# Altium schematic symbol library SamacSys.SchLib: 108 symbols (part 2 of 2)
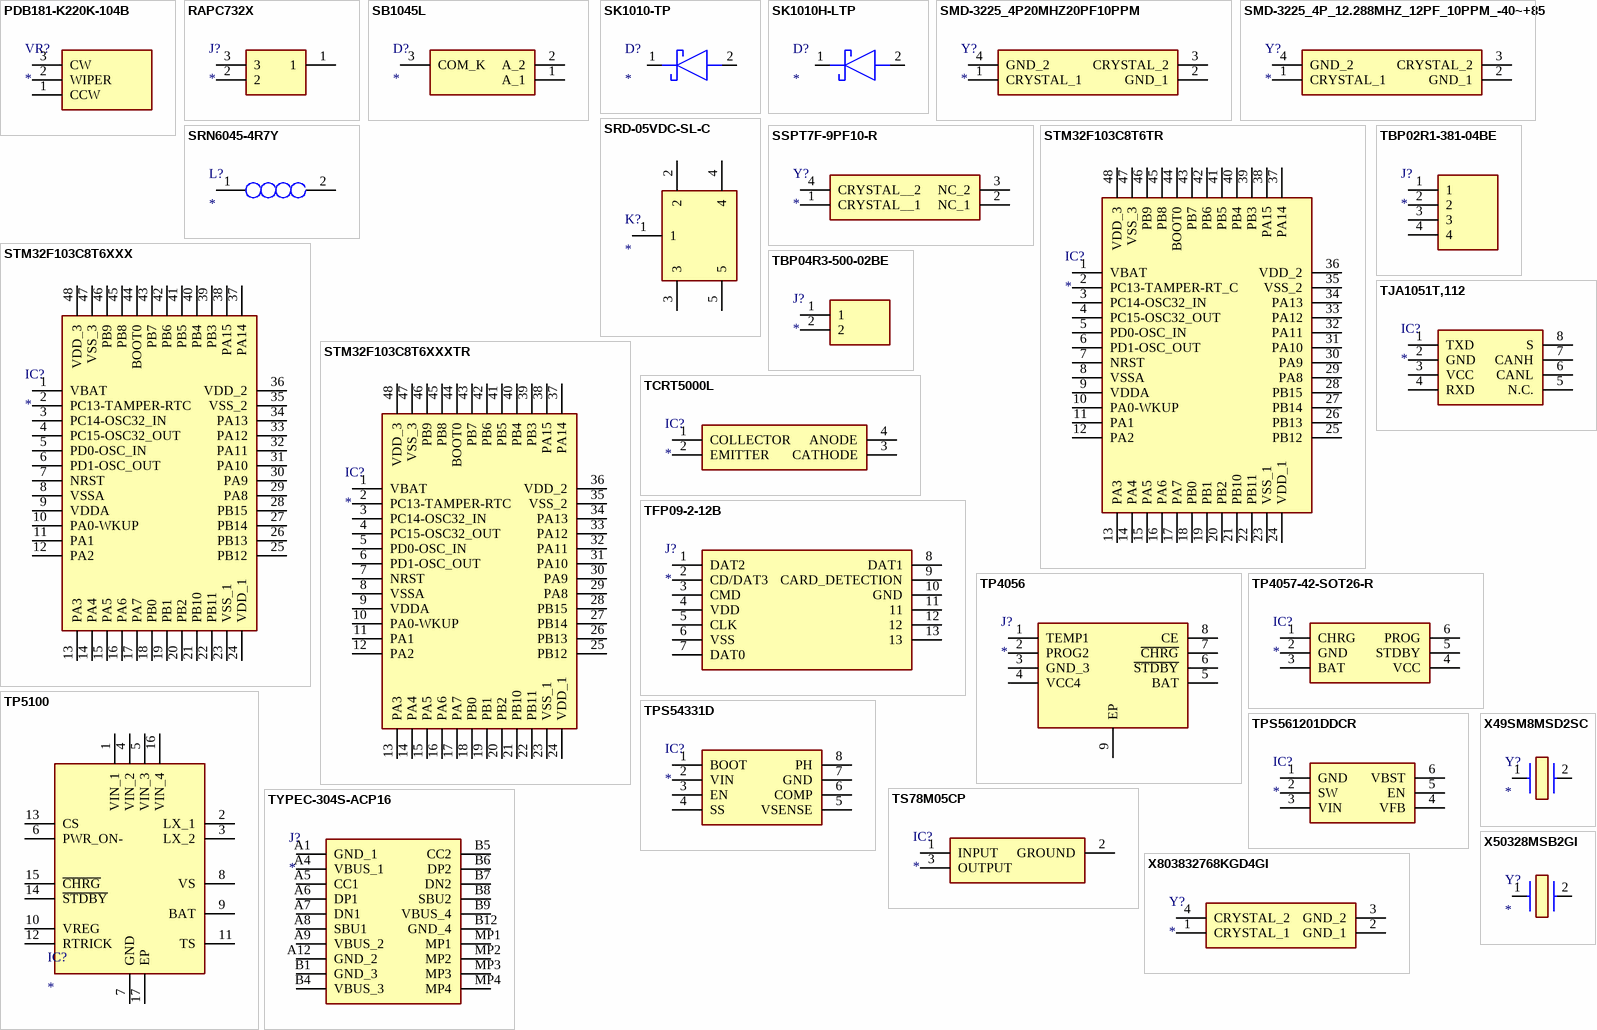
[diagram p3: symbols PDB181-K220K-104B to X803832768KGD4GI]

## TYPEC-304S-ACP16
designator J?
Connector; Manufacturer_Name: XUNPU; Manufacturer_Part_Number: TYPEC-304S-ACP16; Datasheet Link: https://datasheet.lcsc.com/szlcsc/2008152133_XUNPU-TYPEC-304S-ACP16_C720630.pdf; Height: 3.21mm
footprint TYPEC304SACP16
pins: A1 GND_1, A4 VBUS_1, A5 CC1, A6 DP1, A7 DN1, A8 SBU1, A9 VBUS_2, A12 GND_2, B1 GND_3, B4 VBUS_3, B5 CC2, B6 DP2, B7 DN2, B8 SBU2, B9 VBUS_4, B12 GND_4, MP1, MP2, MP3, MP4

## X49SM8MSD2SC
designator Y?
Crystal or Oscillator; Manufacturer_Name: Yangxing Tech; Manufacturer_Part_Number: X49SM8MSD2SC; Datasheet Link: https://datasheet.lcsc.com/lcsc/2103291133_Yangxing-Tech-X49SM8MSD2SC_C12674.pdf; Height: 4.1mm
footprint X49SM8MSD2SC
pins: 1, 2

## X50328MSB2GI
designator Y?
Crystal or Oscillator; Manufacturer_Name: Yangxing Tech; Manufacturer_Part_Number: X50328MSB2GI; Datasheet Link: https://datasheet.lcsc.com/szlcsc/1903061615_Yangxing-Tech-X50328MSB2GI_C115962.pdf; Height: 1.35mm
footprint RESC5032X135N
pins: 1, 2

## X803832768KGD4GI
designator Y?
Crystal or Oscillator; Manufacturer_Name: Yangxing Tech; Manufacturer_Part_Number: X803832768KGD4GI; Datasheet Link: https://datasheet.lcsc.com/szlcsc/Yangxing-Tech-X803832768KGD4GI_C12675.pdf; Height: 2.54mm
footprint X803832768KGD4GI
pins: 1 CRYSTAL_1, 2 GND_1, 3 GND_2, 4 CRYSTAL_2